# Altium footprint library mechanics.PcbLib: 37 footprints (part 1 of 3)
Each footprint in its own frame and in the unit in brackets; x right, y up, seen from the top. Pads: shape width x height; smd on the part's side, far side on the other; paste and mask are expansions set on the pad; w line width, h text height; cw(c..) or ccw(c..) is an arc to the next point about the centre after c.
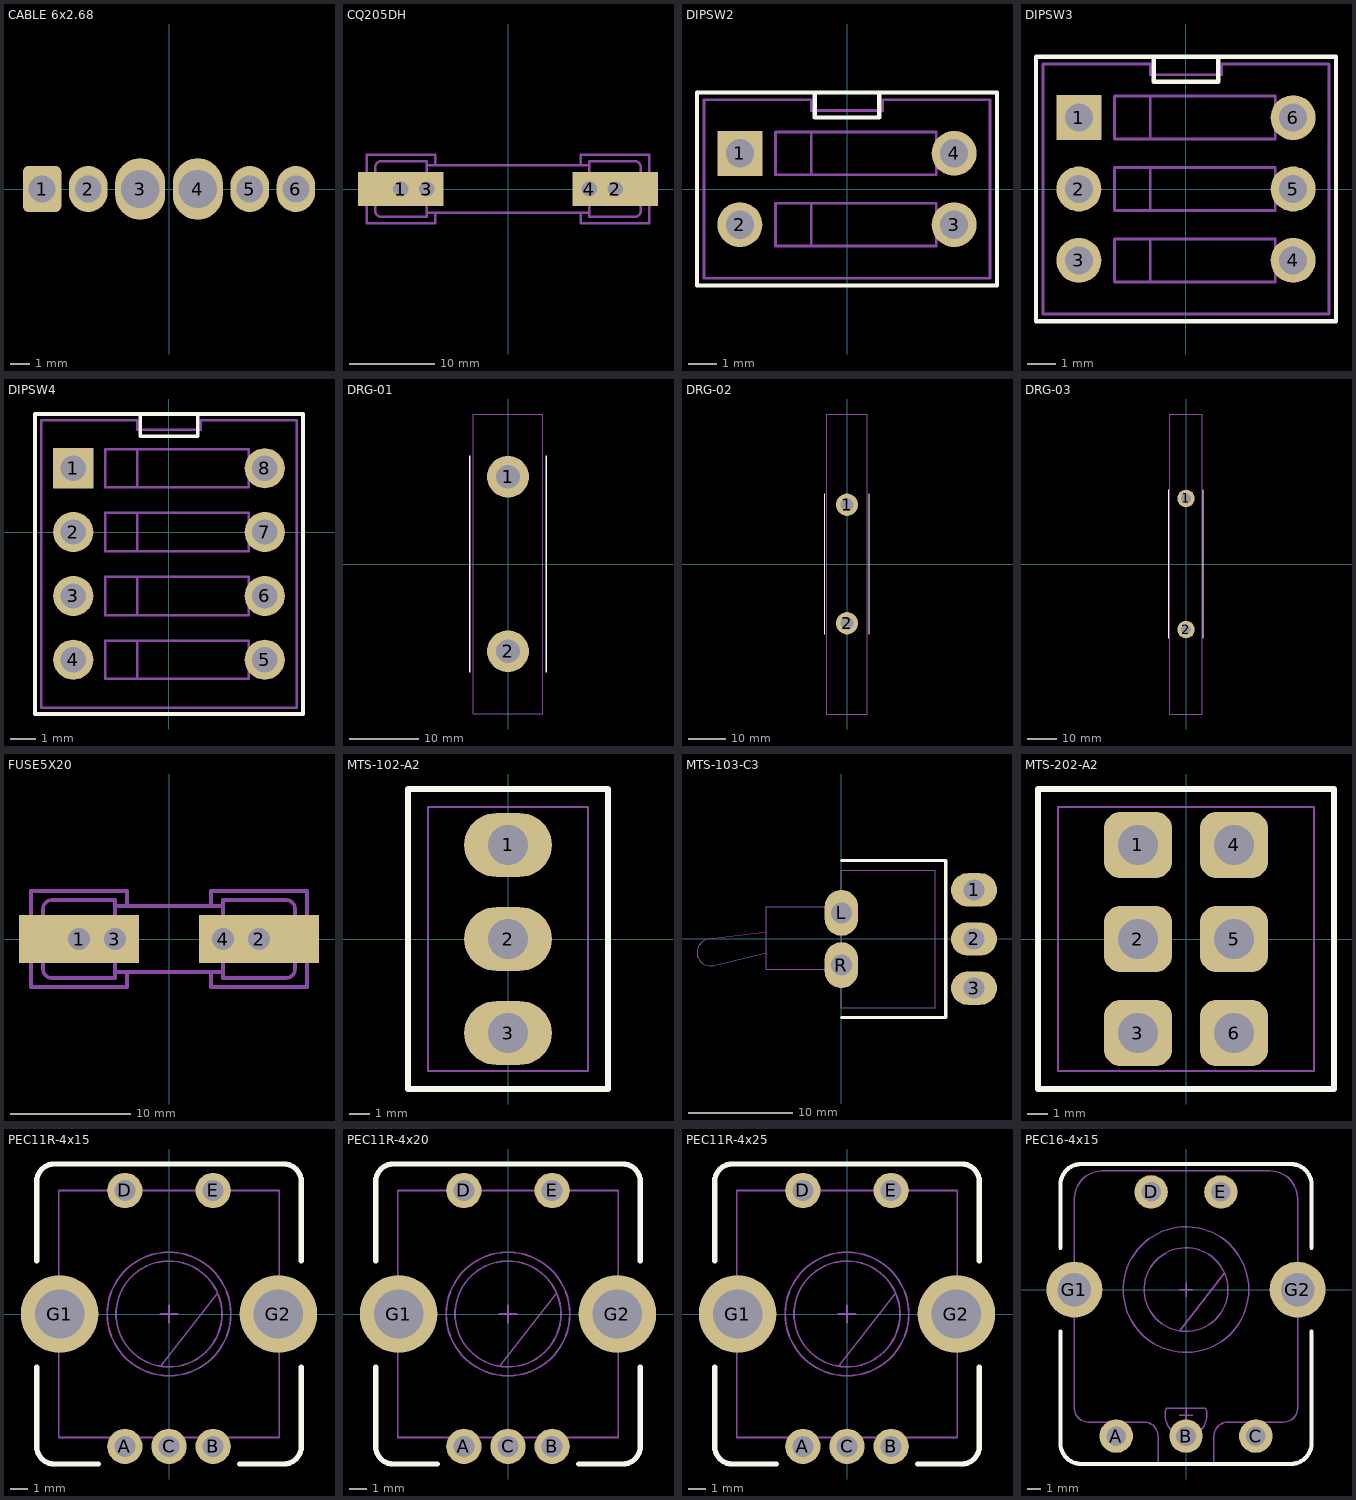
[diagram p0: the footprints below, top view; thin cyan lines are the x and y axes]

## CABLE 6x2.68 [mm] "2.68mm pitch"
pads (6):
  rrect30% 2x2.4 hole 1.4: 1(-6.6,0)
  oval 2x2.4 hole 1.4: 2(-4.2,0) 5(4.2,0) 6(6.6,0)
  oval 2.6x3.2 hole 2: 3(-1.5,0) 4(1.5,0)

## CQ205DH [mm]
pads (4):
  rect 10x4 hole 1.8: 1(-12.5,0) 2(12.5,0)
  round 3 hole 1.8: 3(-9.5,0) 4(9.5,0)
Mechanical 1:
  lines w0.3: -9.5,-2.75 9.5,-2.75 ; -9.5,2.75 9.5,2.75 ; -8.5,-2.75 -8.5,-3.25 -8.5,-4 -9.5,-4 -16.5,-4 -16.5,4 -8.5,4 -8.5,2.75 ; 8.5,-2.75 8.5,-4 16.5,-4 16.5,4 9.5,4 8.5,4 8.5,3.25 8.5,2.75 ; -15.5,-2.5 ccw(c-14.75,-2.5) -14.75,-3.25 -9.5,-3.25 -9.5,3 -9.5,3.25 -14.75,3.25 ccw(c-14.75,2.5) -15.5,2.5 -15.5,-2.5 ; 9.5,-3.25 14.75,-3.25 ccw(c14.75,-2.5) 15.5,-2.5 15.5,2.5 ccw(c14.75,2.5) 14.75,3.25 9.5,3.25 9.5,-3 9.5,-3.25

## DIPSW2 [mm]
height 8
pads (4):
  rect 1.6x1.6 hole 1: 1(-3.81,1.27)
  round 1.6 hole 1: 2(-3.81,-1.27) 3(3.81,-1.27) 4(3.81,1.27)
Top Overlay:
  lines w0.15: -1.143,3.429 -1.143,2.54 1.143,2.54 1.143,3.429 ; -5.334,-3.429 -5.334,3.429 5.334,3.429 5.334,-3.429 -5.334,-3.429
Mechanical 1:
  lines w0.1: -1.27,-2.032 -1.27,-0.508 ; -1.27,0.508 -1.27,2.032 ; -5.08,-3.175 -5.08,3.175 -1.27,3.175 -1.27,2.794 1.27,2.794 1.27,3.175 5.08,3.175 5.08,-3.175 -5.08,-3.175 ; -2.54,-2.032 -2.54,-0.508 3.175,-0.508 3.175,-2.032 -2.54,-2.032 ; -2.54,0.508 -2.54,2.032 3.175,2.032 3.175,0.508 -2.54,0.508
  text "1" at -4.318,1.524 h1
  text "2" at -4.318,-1.016 h1
  text "ON" at 3.556,2.54 h1
3D body: height 7, standoff 0.5, extent -5.08,-3.175 5.08,3.175
3D body: height 8, standoff 6, extent -2.54,0.508 -1.27,2.032
3D body: height 8, standoff 6, extent -2.54,-2.032 -1.27,-0.508

## DIPSW3 [mm]
height 8
pads (6):
  rect 1.6x1.6 hole 1: 1(-3.81,2.54)
  round 1.6 hole 1: 2(-3.81,0) 3(-3.81,-2.54) 4(3.81,-2.54) 5(3.81,0) 6(3.81,2.54)
Top Overlay:
  lines w0.15: -1.143,4.699 -1.143,3.81 1.143,3.81 1.143,4.699 ; -5.334,-4.699 -5.334,4.699 5.334,4.699 5.334,-4.699 -5.334,-4.699
Mechanical 1:
  lines w0.1: -1.27,-3.302 -1.27,-1.778 ; -1.27,-0.762 -1.27,0.762 ; -1.27,1.778 -1.27,3.302 ; -5.08,-4.445 -5.08,4.445 -1.27,4.445 -1.27,4.064 1.27,4.064 1.27,4.445 5.08,4.445 5.08,-4.445 -5.08,-4.445 ; -2.54,-3.302 -2.54,-1.778 3.175,-1.778 3.175,-3.302 -2.54,-3.302 ; -2.54,-0.762 3.175,-0.762 3.175,0.762 -2.54,0.762 -2.54,-0.762 ; -2.54,1.778 3.175,1.778 3.175,3.302 -2.54,3.302 -2.54,1.778
  text "ON" at 3.556,3.81 h1
  text "2" at -4.318,0.254 h1
  text "1" at -4.318,2.794 h1
  text "3" at -4.318,-2.286 h1
3D body: height 8, standoff 6, extent -2.54,-0.762 -1.27,0.762
3D body: height 8, standoff 6, extent -2.54,1.778 -1.27,3.302
3D body: height 7, standoff 0.5, extent -5.08,-4.445 5.08,4.445
3D body: height 8, standoff 6, extent -2.54,-3.302 -1.27,-1.778

## DIPSW4 [mm]
height 8
pads (8):
  rect 1.6x1.6 hole 1: 1(-3.81,2.54)
  round 1.6 hole 1: 2(-3.81,0) 3(-3.81,-2.54) 4(-3.81,-5.08) 5(3.81,-5.08) 6(3.81,-2.54) 7(3.81,0) 8(3.81,2.54)
Top Overlay:
  lines w0.15: -1.143,4.699 -1.143,3.81 1.143,3.81 1.143,4.699 ; -5.334,-7.239 5.334,-7.239 5.334,4.699 -5.334,4.699 -5.334,-7.239
Mechanical 1:
  lines w0.1: -1.27,-5.842 -1.27,-4.318 ; -1.27,-3.302 -1.27,-1.778 ; -1.27,-0.762 -1.27,0.762 ; -1.27,1.778 -1.27,3.302 ; -5.08,-6.985 5.08,-6.985 5.08,4.445 1.27,4.445 1.27,4.064 -1.27,4.064 -1.27,4.445 -5.08,4.445 -5.08,-6.985 ; -2.54,-5.842 3.175,-5.842 3.175,-4.318 -2.54,-4.318 -2.54,-5.842 ; -2.54,-3.302 -2.54,-1.778 3.175,-1.778 3.175,-3.302 -2.54,-3.302 ; -2.54,-0.762 3.175,-0.762 3.175,0.762 -2.54,0.762 -2.54,-0.762 ; -2.54,1.778 3.175,1.778 3.175,3.302 -2.54,3.302 -2.54,1.778
  text "4" at -4.318,-4.826 h1
  text "ON" at 3.556,3.81 h1
  text "2" at -4.318,0.254 h1
  text "1" at -4.318,2.794 h1
  text "3" at -4.318,-2.286 h1
3D body: height 8, standoff 6, extent -2.54,-5.842 -1.27,-4.318
3D body: height 8, standoff 6, extent -2.54,-0.762 -1.27,0.762
3D body: height 8, standoff 6, extent -2.54,1.778 -1.27,3.302
3D body: height 7, standoff 0.5, extent -5.08,-6.985 5.08,4.445
3D body: height 8, standoff 6, extent -2.54,-3.302 -1.27,-1.778

## DRG-01 [mm] "DIN rail holder 43mm"
height 13
pads (2):
  round 6 hole 3.4: 1(0,12.5) 2(0,-12.5)
Top Overlay:
  lines w0.2: -5.5,-15.5 -5.5,15.5 ; 5.5,-15.5 5.5,15.5
Mechanical 1:
  lines w0.1: -5,-21.5 5,-21.5 5,21.5 -5,21.5 -5,-21.5
3D body: height 13.1, standoff 0.1, extent -5,-21.5 5,21.5

## DRG-02 [mm] "DIN rail holder 81mm"
height 13
pads (2):
  round 6 hole 3.4: 1(0,16) 2(0,-16)
Top Overlay:
  lines w0.2: -6,-19 -6,19 ; 6,-19 6,19
Mechanical 1:
  lines w0.1: -5.5,-40.5 5.5,-40.5 5.5,40.5 -5.5,40.5 -5.5,-40.5
3D body: height 13.1, standoff 0.1, extent -5.5,-40.5 5.5,40.5

## DRG-03 [mm] "DIN rail holder 103mm"
height 13
pads (2):
  round 6 hole 3.4: 1(0,22.5) 2(0,-22.5)
Top Overlay:
  lines w0.2: -6,-25.5 -6,25.5 ; 6,-25.5 6,25.5
Mechanical 1:
  lines w0.1: -5.5,-51.5 5.5,-51.5 5.5,51.5 -5.5,51.5 -5.5,-51.5
3D body: height 13.1, standoff 0.1, extent -5.5,-51.5 5.5,51.5

## FUSE5X20 [mm]
pads (4):
  rect 10x4 hole 1.8: 1(-7.5,0) 2(7.5,0)
  round 3 hole 1.8: 3(-4.5,0) 4(4.5,0)
Mechanical 1:
  lines w0.3: -4.5,-2.75 4.5,-2.75 ; -4.5,2.75 4.5,2.75 ; -3.5,-2.75 -3.5,-3.25 -3.5,-4 -4.5,-4 -11.5,-4 -11.5,4 -3.5,4 -3.5,2.75 ; 3.5,-2.75 3.5,-4 11.5,-4 11.5,4 4.5,4 3.5,4 3.5,3.25 3.5,2.75 ; -10.5,-2.5 ccw(c-9.75,-2.5) -9.75,-3.25 -4.5,-3.25 -4.5,3 -4.5,3.25 -9.75,3.25 ccw(c-9.75,2.5) -10.5,2.5 -10.5,-2.5 ; 4.5,-3.25 4.5,-3 4.5,3.25 9.75,3.25 cw(c9.75,2.5) 10.5,2.5 10.5,-2.5 cw(c9.75,-2.5) 9.75,-3.25 4.5,-3.25

## MTS-102-A2 [mm] "Switch"
height 30
pads (3):
  oval 4.4x3.2 hole 2: 1(0,4.7) 2(0,0) 3(0,-4.7)
Top Overlay:
  lines w0.3: -5,-7.5 -5,7.5 5,7.5 5,-7.5 -5,-7.5
Mechanical 1:
  lines w0.1: -4,-6.6 -4,6.6 4,6.6 4,-6.6 -4,-6.6
3D body: height 10.5, standoff 1, extent -4,-6.6 4,6.6
3D body: height 19.3, standoff 10.3, extent -2.995,-2.999 3,2.999
3D body: height 30.36, standoff 18.06, extent -1.394,-3.461 1.4,1.377

## MTS-103-C3 [mm] "Switch"
height 8
pads (5):
  oval 4.4x3.2 hole 2: 1(12.7,4.7) 2(12.7,0) 3(12.7,-4.7)
  oval 3.2x4.4 hole 2: L(0,2.5) R(0,-2.5)
Top Overlay:
  lines w0.3: 0,-7.5 10,-7.5 10,7.5 0,7.5
Mechanical 1:
  lines w0.1: -7.2,-1.3 -12.1,-2.5 cw(c-12.53,-1.286) -12.6,0 -7.2,0.7 ; 0,-2.9 -7.2,-2.9 -7.2,3.1 0,3.1 ; 0,-6.6 9,-6.6 9,6.6 0,6.6 0,-6.6
3D body: height 5.4, standoff 2.6, extent -14.078,-2.951 -6.207,1.101
3D body: height 7, standoff 1, extent -7.2,-2.896 0.3,3.096
3D body: height 6.2, standoff -4.5, extent 5.7,-5.3 13.3,-4.1
3D body: height 6.2, standoff -4.5, extent 5.7,-0.6 13.3,0.6
3D body: height 6.2, standoff -4.5, extent 5.7,4.1 13.3,5.3
3D body: height 7.9, standoff 0.2, extent 0,-6.6 9,6.6

## MTS-202-A2 [mm] "Switch"
height 30
pads (6):
  rrect50% 3.4x3.3 hole 2: 1(-2.4,4.7) 2(-2.4,0) 3(-2.4,-4.7) 4(2.4,4.7) 5(2.4,0) 6(2.4,-4.7)
Top Overlay:
  lines w0.3: -7.4,-7.5 -7.4,7.5 7.4,7.5 7.4,-7.5 -7.4,-7.5
Mechanical 1:
  lines w0.1: -6.4,-6.6 -6.4,6.6 6.4,6.6 6.4,-6.6 -6.4,-6.6
3D body: height 10.5, standoff 1, extent -6.4,-6.6 6.4,6.6
3D body: height 19.3, standoff 10.3, extent -2.995,-2.999 3,2.999
3D body: height 30.36, standoff 18.06, extent -1.394,-3.461 1.4,1.377

## PEC11R-4x15 [mm] "Encoder"
height 21.5
pads (7):
  round 2 hole 1.2: A(-2.5,-7.5) B(2.5,-7.5) C(0,-7.5) D(-2.5,7) E(2.5,7)
  round 4.4 hole 2.8: G1(-6.2,0) G2(6.2,0)
Top Overlay:
  lines w0.3: -7.5,-3 -7.5,-7.5 ccw(c-6.5,-7.5) -6.5,-8.5 -4,-8.5 ; -7.5,3 -7.5,7.5 cw(c-6.5,7.5) -6.5,8.5 6.5,8.5 cw(c6.5,7.5) 7.5,7.5 7.5,3 ; 4,-8.5 6.5,-8.5 ccw(c6.5,-7.5) 7.5,-7.5 7.5,-3
Mechanical 1:
  circle w0.1: c0,0 r3.5
  circle w0.1: c0,0 r3
  lines w0.1: -0.5,0 0.5,0 ; -0.462,-2.952 2.742,1.168 ; 0,-0.5 0,0.5 ; -6.25,-7 -6.25,7 6.25,7 6.25,-7 -6.25,-7
3D body: height 6.5, standoff 1.5, extent -6.25,-7 6.25,7
3D body: height 21.5, standoff 6.5, extent -3,-3 3,3
3D body: height 11.5, standoff 3.5, extent -3.496,-3.499 3.5,3.499

## PEC11R-4x20 [mm] "Encoder"
height 26.5
pads (7):
  round 2 hole 1.2: A(-2.5,-7.5) B(2.5,-7.5) C(0,-7.5) D(-2.5,7) E(2.5,7)
  round 4.4 hole 2.8: G1(-6.2,0) G2(6.2,0)
Top Overlay:
  lines w0.3: -7.5,-3 -7.5,-7.5 ccw(c-6.5,-7.5) -6.5,-8.5 -4,-8.5 ; -7.5,3 -7.5,7.5 cw(c-6.5,7.5) -6.5,8.5 6.5,8.5 cw(c6.5,7.5) 7.5,7.5 7.5,3 ; 4,-8.5 6.5,-8.5 ccw(c6.5,-7.5) 7.5,-7.5 7.5,-3
Mechanical 1:
  circle w0.1: c0,0 r3.5
  circle w0.1: c0,0 r3
  lines w0.1: -0.5,0 0.5,0 ; -0.462,-2.952 2.742,1.168 ; 0,-0.5 0,0.5 ; -6.25,-7 -6.25,7 6.25,7 6.25,-7 -6.25,-7
3D body: height 6.5, standoff 1.5, extent -6.25,-7 6.25,7
3D body: height 26.5, standoff 6.5, extent -3,-2.99 3,2.99
3D body: height 13.5, standoff 5.5, extent -3.496,-3.499 3.5,3.499

## PEC11R-4x25 [mm] "Encoder"
height 31.5
pads (7):
  round 2 hole 1.2: A(-2.5,-7.5) B(2.5,-7.5) C(0,-7.5) D(-2.5,7) E(2.5,7)
  round 4.4 hole 2.8: G1(-6.2,0) G2(6.2,0)
Top Overlay:
  lines w0.3: -7.5,-3 -7.5,-7.5 ccw(c-6.5,-7.5) -6.5,-8.5 -4,-8.5 ; -7.5,3 -7.5,7.5 cw(c-6.5,7.5) -6.5,8.5 6.5,8.5 cw(c6.5,7.5) 7.5,7.5 7.5,3 ; 4,-8.5 6.5,-8.5 ccw(c6.5,-7.5) 7.5,-7.5 7.5,-3
Mechanical 1:
  circle w0.1: c0,0 r3
  circle w0.1: c0,0 r3.5
  lines w0.1: -0.5,0 0.5,0 ; -0.462,-2.952 2.742,1.168 ; 0,-0.5 0,0.5 ; -6.25,-7 6.25,-7 6.25,7 -6.25,7 -6.25,-7
3D body: height 13.5, standoff 5.5, extent -3.496,-3.499 3.5,3.499
3D body: height 31.5, standoff 6.5, extent -3,-2.987 3,2.987
3D body: height 6.5, standoff 1.5, extent -6.25,-7 6.25,7

## PEC16-4x15 [mm] "Encoder"
height 23
pads (7):
  round 2.4 hole 1.4: A(-5,-10.5) B(0,-10.5) C(5,-10.5) D(-2.5,7) E(2.5,7)
  round 4 hole 2.4: G1(-8,0) G2(8,0)
Top Overlay:
  lines w0.3: -9,-3 -9,-11 ccw(c-7.5,-11) -7.5,-12.5 7.5,-12.5 ccw(c7.5,-11) 9,-11 9,-3 ; -9,3 -9,7.5 cw(c-7.5,7.5) -7.5,9 7.5,9 cw(c7.5,7.5) 9,7.5 9,3
Mechanical 1:
  circle w0.1: c0,0 r3
  circle w0.1: c0,0 r4.5
  lines w0.1: -1.423,-8.526 ccw(c0,-9) 1.423,-8.526 ; -1.4,-8.5 1.4,-8.5 ; -0.5,-9 0.5,-9 ; -0.5,0 0.5,0 ; -0.462,-2.952 2.742,1.168 ; 0,-9.5 0,-8.5 ; 0,-0.5 0,0.5 ; -8,-8.5 ccw(c-7,-8.5) -7,-9.5 -3,-9.5 cw(c-3,-10.5) -2,-10.5 -2,-12.5 2,-12.5 2,-10.5 cw(c3,-10.5) 3,-9.5 7,-9.5 ccw(c7,-8.5) 8,-8.5 8,6.5 ccw(c6,6.5) 6,8.5 -6,8.5 ccw(c-6,6.5) -8,6.5 -8,-8.5
3D body: height 8, standoff 2, extent -8.01,-12.5 8.01,8.51
3D body: height 13, standoff 5, extent -4.495,-4.499 4.5,4.499
3D body: height 23, standoff 8, extent -3,-3 3,3
3D body: height 10, standoff 7, extent -1.484,-10.503 1.484,-8.5